# EAGLE library part SW_DIP_ROT_COPAL (library wheat)
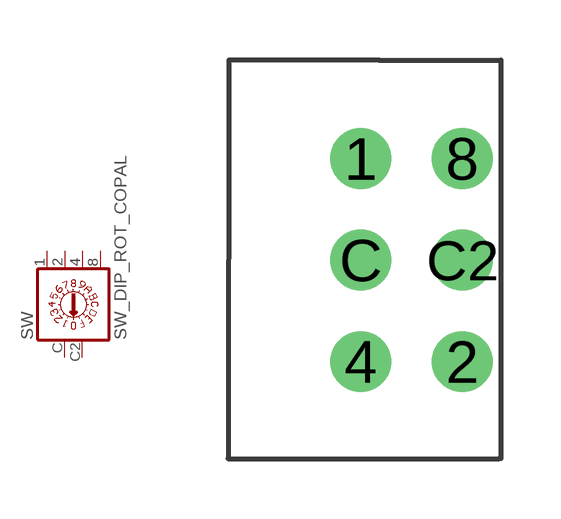
[diagram p144: symbol with the pads of SW_DIP_ROT_COPAL; footprint SW_DIP_ROT_COPAL]

Designator prefix SW

## SW_DIP_ROT_COPAL  [SW_DIP_ROT_COPAL]
1  1  pas
2  2  pas
4  4  pas
8  8  pas
C  C  pas
C2  C2  pas

## Footprint SW_DIP_ROT_COPAL (pad centres in mm)
drill 1.016: 1 3.3,2.54; 2 5.84,-2.54; 4 3.3,-2.54; 8 5.84,2.54; C 3.3,0; C2 5.84,0